# EAGLE library part PINHD-RHS (library kyle)
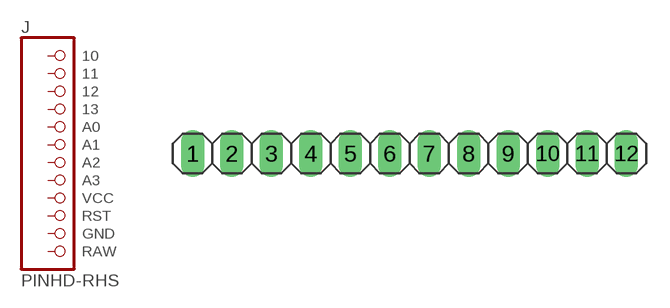
[diagram p2: symbol with the pads of 1X12; footprint 1X12]

Designator prefix J

## PINHD-RHS  [1X12]
1  10  pas
2  11  pas
3  12  pas
4  13  pas
5  A0  pas
6  A1  pas
7  A2  pas
8  A3  pas
9  VCC  pas
10  RST  pas
11  GND  pas
12  RAW  pas

## Footprint 1X12 (pad centres in mm)
PIN HEADER
drill 1.016 long: 1 -13.97,0; 2 -11.43,0; 3 -8.89,0; 4 -6.35,0; 5 -3.81,0; 6 -1.27,0; 7 1.27,0; 8 3.81,0; 9 6.35,0; 10 8.89,0; 11 11.43,0; 12 13.97,0